# Altium schematic symbol library FIDUCIAL-DOT.SchLib: 1 symbol
Pins are listed as number, name and electrical type; pins without a type are passive.

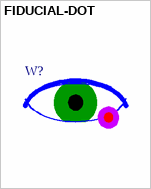
[diagram p0: symbol FIDUCIAL-DOT]

## FIDUCIAL-DOT
designator W?, comment IPC Fiducial Dot  (value not drawn)  (no BOM)
Drawn By: Juan I Carrano